# Altium footprint library DO201.PcbLib: 1 footprints
Each footprint in its own frame and in the unit in brackets; x right, y up, seen from the top. Pads: shape width x height; smd on the part's side, far side on the other; paste and mask are expansions set on the pad; w line width, h text height; cw(c..) or ccw(c..) is an arc to the next point about the centre after c.
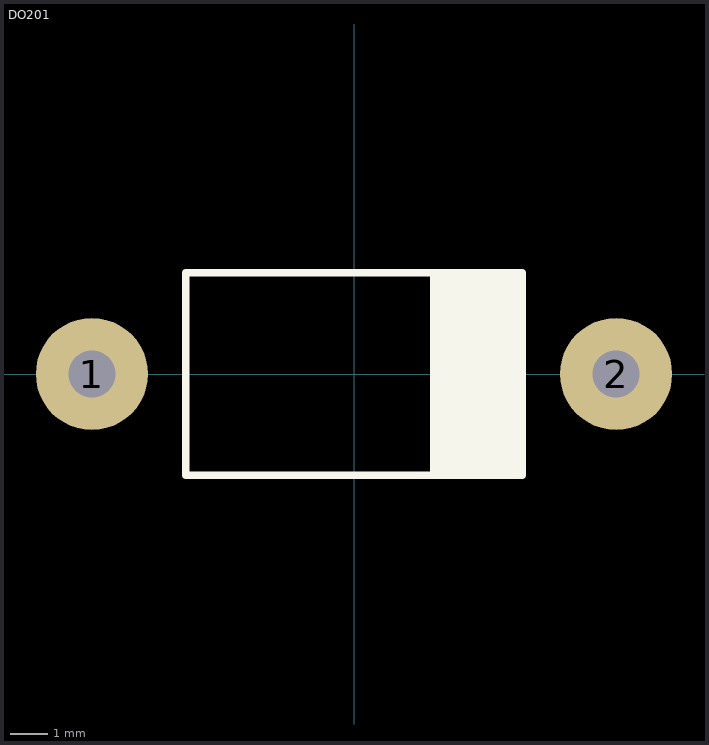
[diagram p0: the footprint, top view; thin cyan lines are the x and y axes]

## DO201 [mm]
pads (2):
  round 3 hole 1.25: 1(-7,0) 2(7,0)
Top Overlay:
  rectangle: 2.032,-2.7 4.5,2.7
  lines w0.2: -4.5,-2.7 -4.5,2.7 4.5,2.7 4.5,-2.7 -4.5,-2.7
3D body: height 2.3, standoff -6.81, extent -7.645,-2.796 7.645,2.814